# EAGLE library part FLOPPY_DRIVE (library YzkLib)
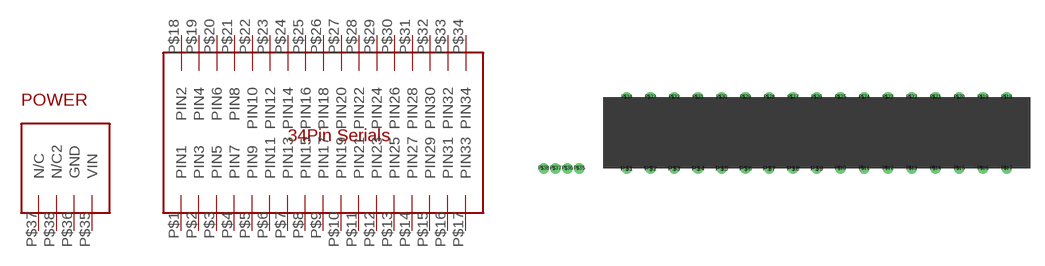
[diagram p0: symbol with the pads of FLOPPYDRIVE; footprint FLOPPYDRIVE]

Designator prefix -

## FLOPPY_DRIVE  [FLOPPYDRIVE]
P$1  PIN1
P$2  PIN3
P$3  PIN5
P$4  PIN7
P$5  PIN9
P$6  PIN11
P$7  PIN13
P$8  PIN15
P$9  PIN17
P$10  PIN19
P$11  PIN21
P$12  PIN23
P$13  PIN25
P$14  PIN27
P$15  PIN29
P$16  PIN31
P$17  PIN33
P$18  PIN2
P$19  PIN4
P$20  PIN6
P$21  PIN8
P$22  PIN10
P$23  PIN12
P$24  PIN14
P$25  PIN16
P$26  PIN18
P$27  PIN20
P$28  PIN22
P$29  PIN24
P$30  PIN26
P$31  PIN28
P$32  PIN30
P$33  PIN32
P$34  PIN34
P$35  VIN
P$36  GND
P$37  N/C
P$38  N/C2

## Footprint FLOPPYDRIVE (pad centres in mm)
drill 0.6: P$1 0,2.54; P$2 2.54,2.54; P$3 5.08,2.54; P$4 7.62,2.54; P$5 10.16,2.54; P$6 12.7,2.54; P$7 15.24,2.54; P$8 17.78,2.54; P$9 20.32,2.54; P$10 22.86,2.54; P$11 25.4,2.54; P$12 27.94,2.54; P$13 30.48,2.54; P$14 33.02,2.54; P$15 35.56,2.54; P$16 38.1,2.54; P$17 40.64,2.54; P$18 40.64,10.16; P$19 38.1,10.16; P$20 35.56,10.16; P$21 33.02,10.16; P$22 30.48,10.16; P$23 27.94,10.16; P$24 25.4,10.16; P$25 22.86,10.16; P$26 20.32,10.16; P$27 17.78,10.16; P$28 15.24,10.16; P$29 12.7,10.16; P$30 10.16,10.16; P$31 7.62,10.16; P$32 5.08,10.16; P$33 2.54,10.16; P$34 0,10.16; P$35 -5.08,2.54; P$36 -6.35,2.54; P$37 -7.62,2.54; P$38 -8.89,2.54